# EAGLE library part EPF10K130-BGA672 (library altera)
EPF10K130 FLEX 10K family
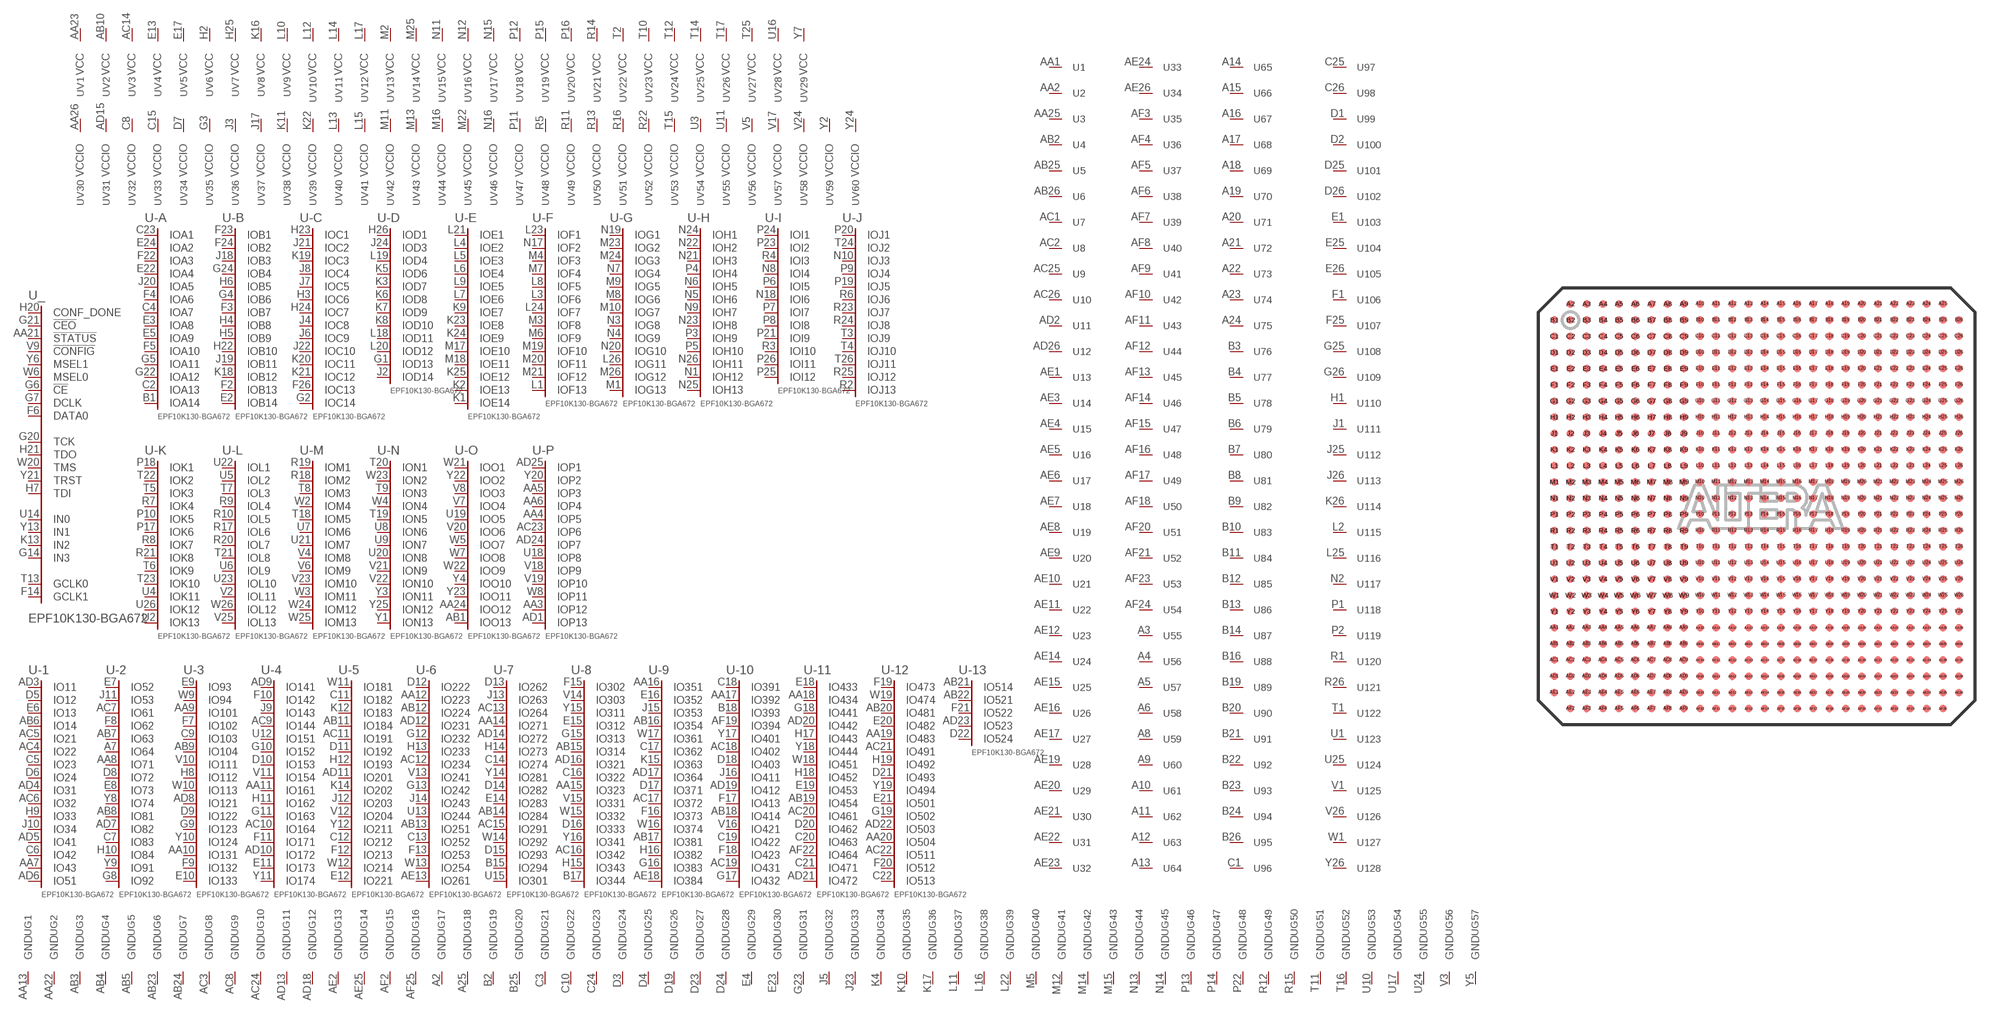
[diagram p36: symbol with the pads of BGA672; footprint BGA672]

Designator prefix U; gates _=130E672C -A=A14-130E -B=B14-130E -C=C14-130E -D=D14-130E -E=E14-130E -F=F13-130E -G=G13-130E -H=H13-130E -I=I12-130E -J=J13-130E -K=K13-130E -L=L13-130E -M=M13-130E -N=N13-130E -O=O13-130E -P=P13-130E -1=51-130E -2=92-130E -3=133-130E -4=174-130E -5=221-130E -6=261-130E -7=301-130E -8=344-130E -9=384-130E -10=432-130E -11=472-130E -12=513-130E -13=524-130E G1=GND G2=GND G3=GND G4=GND G5=GND G6=GND G7=GND G8=GND G9=GND G10=GND G11=GND G12=GND G13=GND G14=GND G15=GND G16=GND G17=GND G18=GND G19=GND G20=GND G21=GND G22=GND G23=GND G24=GND G25=GND G26=GND G27=GND G28=GND G29=GND G30=GND G31=GND G32=GND G33=GND G34=GND G35=GND G36=GND G37=GND G38=GND G39=GND G40=GND G41=GND G42=GND G43=GND G44=GND G45=GND G46=GND G47=GND G48=GND G49=GND G50=GND G51=GND G52=GND G53=GND G54=GND G55=GND G56=GND G57=GND V1=VCCINT V2=VCCINT V3=VCCINT V4=VCCINT V5=VCCINT V6=VCCINT V7=VCCINT V8=VCCINT V9=VCCINT V10=VCCINT V11=VCCINT V12=VCCINT V13=VCCINT V14=VCCINT V15=VCCINT V16=VCCINT V17=VCCINT V18=VCCINT V19=VCCINT V20=VCCINT V21=VCCINT V22=VCCINT V23=VCCINT V24=VCCINT V25=VCCINT V26=VCCINT V27=VCCINT V28=VCCINT V29=VCCINT V30=VCCIO V31=VCCIO V32=VCCIO V33=VCCIO V34=VCCIO V35=VCCIO V36=VCCIO V37=VCCIO V38=VCCIO V39=VCCIO V40=VCCIO V41=VCCIO V42=VCCIO V43=VCCIO V44=VCCIO V45=VCCIO V46=VCCIO V47=VCCIO V48=VCCIO V49=VCCIO V50=VCCIO V51=VCCIO V52=VCCIO V53=VCCIO V54=VCCIO V55=VCCIO V56=VCCIO V57=VCCIO V58=VCCIO V59=VCCIO V60=VCCIO 1=NC 2=NC 3=NC 4=NC 5=NC 6=NC 7=NC 8=NC 9=NC 10=NC 11=NC 12=NC 13=NC 14=NC 15=NC 16=NC 17=NC 18=NC 19=NC 20=NC 21=NC 22=NC 23=NC 24=NC 25=NC 26=NC 27=NC 28=NC 29=NC 30=NC 31=NC 32=NC 33=NC 34=NC 35=NC 36=NC 37=NC 38=NC 39=NC 40=NC 41=NC 42=NC 43=NC 44=NC 45=NC 46=NC 47=NC 48=NC 49=NC 50=NC 51=NC 52=NC 53=NC 54=NC 55=NC 56=NC 57=NC 58=NC 59=NC 60=NC 61=NC 62=NC 63=NC 64=NC 65=NC 66=NC 67=NC 68=NC 69=NC 70=NC 71=NC 72=NC 73=NC 74=NC 75=NC 76=NC 77=NC 78=NC 79=NC 80=NC 81=NC 82=NC 83=NC 84=NC 85=NC 86=NC 87=NC 88=NC 89=NC 90=NC 91=NC 92=NC 93=NC 94=NC 95=NC 96=NC 97=NC 98=NC 99=NC 100=NC 101=NC 102=NC 103=NC 104=NC 105=NC 106=NC 107=NC 108=NC 109=NC 110=NC 111=NC 112=NC 113=NC 114=NC 115=NC 116=NC 117=NC 118=NC 119=NC 120=NC 121=NC 122=NC 123=NC 124=NC 125=NC 126=NC 127=NC 128=NC

## EPF10K130-BGA672  [BGA672]
A2  G17:GND  pwr
A3  55:NC  nc
A4  56:NC  nc
A5  57:NC  nc
A6  58:NC  nc
A7  -2:IO64
A8  59:NC  nc
A9  60:NC  nc
A10  61:NC  nc
A11  62:NC  nc
A12  63:NC  nc
A13  64:NC  nc
A14  65:NC  nc
A15  66:NC  nc
A16  67:NC  nc
A17  68:NC  nc
A18  69:NC  nc
A19  70:NC  nc
A20  71:NC  nc
A21  72:NC  nc
A22  73:NC  nc
A23  74:NC  nc
A24  75:NC  nc
A25  G18:GND  pwr
AA1  1:NC  nc
AA2  2:NC  nc
AA3  -P:IOP12
AA4  -P:IOP5
AA5  -P:IOP3
AA6  -P:IOP4
AA7  -1:IO43
AA8  -2:IO71
AA9  -3:IO101
AA10  -3:IO131
AA11  -4:IO161
AA12  -6:IO223
AA13  G1:GND  pwr
AA14  -7:IO271
AA15  -8:IO323
AA16  -9:IO351
AA17  -10:IO392
AA18  -11:IO434
AA19  -12:IO483
AA20  -12:IO504
AA21  _:!STATUS!  in
AA22  G2:GND  pwr
AA23  V1:VCC  pwr
AA24  -O:IOO12
AA25  3:NC  nc
AA26  V30:VCCIO  pwr
AB1  -O:IOO13
AB2  4:NC  nc
AB3  G3:GND  pwr
AB4  G4:GND  pwr
AB5  G5:GND  pwr
AB6  -1:IO14
AB7  -2:IO63
AB8  -2:IO81
AB9  -3:IO104
AB10  V2:VCC  pwr
AB11  -5:IO184
AB12  -6:IO224
AB13  -6:IO251
AB14  -7:IO284
AB15  -8:IO314
AB16  -9:IO354
AB17  -9:IO381
AB18  -10:IO414
AB19  -11:IO454
AB20  -12:IO481
AB21  -13:IO514
AB22  -13:IO521
AB23  G6:GND  pwr
AB24  G7:GND  pwr
AB25  5:NC  nc
AB26  6:NC  nc
AC1  7:NC  nc
AC2  8:NC  nc
AC3  G8:GND  pwr
AC4  -1:IO22
AC5  -1:IO21
AC6  -1:IO32
AC7  -2:IO61
AC8  G9:GND  pwr
AC9  -4:IO144
AC10  -4:IO164
AC11  -5:IO191
AC12  -6:IO234
AC13  -7:IO264
AC14  V3:VCC  pwr
AC15  -7:IO291
AC16  -8:IO342
AC17  -9:IO372
AC18  -10:IO402
AC19  -10:IO431
AC20  -11:IO461
AC21  -12:IO491
AC22  -12:IO511
AC23  -P:IOP6
AC24  G10:GND  pwr
AC25  9:NC  nc
AC26  10:NC  nc
AD1  -P:IOP13
AD2  11:NC  nc
AD3  -1:IO11
AD4  -1:IO31
AD5  -1:IO41
AD6  -1:IO51
AD7  -2:IO82
AD8  -3:IO121
AD9  -4:IO141
AD10  -4:IO172
AD11  -5:IO201
AD12  -6:IO231
AD13  G11:GND  pwr
AD14  -7:IO272
AD15  V31:VCCIO  pwr
AD16  -8:IO321
AD17  -9:IO364
AD18  G12:GND  pwr
AD19  -10:IO412
AD20  -11:IO442
AD21  -11:IO472
AD22  -12:IO503
AD23  -13:IO523
AD24  -P:IOP7
AD25  -P:IOP1
AD26  12:NC  nc
AE1  13:NC  nc
AE2  G13:GND  pwr
AE3  14:NC  nc
AE4  15:NC  nc
AE5  16:NC  nc
AE6  17:NC  nc
AE7  18:NC  nc
AE8  19:NC  nc
AE9  20:NC  nc
AE10  21:NC  nc
AE11  22:NC  nc
AE12  23:NC  nc
AE13  -6:IO261
AE14  24:NC  nc
AE15  25:NC  nc
AE16  26:NC  nc
AE17  27:NC  nc
AE18  -9:IO384
AE19  28:NC  nc
AE20  29:NC  nc
AE21  30:NC  nc
AE22  31:NC  nc
AE23  32:NC  nc
AE24  33:NC  nc
AE25  G14:GND  pwr
AE26  34:NC  nc
AF2  G15:GND  pwr
AF3  35:NC  nc
AF4  36:NC  nc
AF5  37:NC  nc
AF6  38:NC  nc
AF7  39:NC  nc
AF8  40:NC  nc
AF9  41:NC  nc
AF10  42:NC  nc
AF11  43:NC  nc
AF12  44:NC  nc
AF13  45:NC  nc
AF14  46:NC  nc
AF15  47:NC  nc
AF16  48:NC  nc
AF17  49:NC  nc
AF18  50:NC  nc
AF19  -10:IO394
AF20  51:NC  nc
AF21  52:NC  nc
AF22  -11:IO464
AF23  53:NC  nc
AF24  54:NC  nc
AF25  G16:GND  pwr
B1  -A:IOA14
B2  G19:GND  pwr
B3  76:NC  nc
B4  77:NC  nc
B5  78:NC  nc
B6  79:NC  nc
B7  80:NC  nc
B8  81:NC  nc
B9  82:NC  nc
B10  83:NC  nc
B11  84:NC  nc
B12  85:NC  nc
B13  86:NC  nc
B14  87:NC  nc
B15  -7:IO294
B16  88:NC  nc
B17  -8:IO344
B18  -10:IO393
B19  89:NC  nc
B20  90:NC  nc
B21  91:NC  nc
B22  92:NC  nc
B23  93:NC  nc
B24  94:NC  nc
B25  G20:GND  pwr
B26  95:NC  nc
C1  96:NC  nc
C2  -A:IOA13
C3  G21:GND  pwr
C4  -A:IOA7
C5  -1:IO23
C6  -1:IO42
C7  -2:IO83
C8  V32:VCCIO  pwr
C9  -3:IO103
C10  G22:GND  pwr
C11  -5:IO182
C12  -5:IO212
C13  -6:IO252
C14  -7:IO274
C15  V33:VCCIO  pwr
C16  -8:IO322
C17  -9:IO362
C18  -10:IO391
C19  -10:IO422
C20  -11:IO463
C21  -11:IO471
C22  -12:IO513
C23  -A:IOA1
C24  G23:GND  pwr
C25  97:NC  nc
C26  98:NC  nc
D1  99:NC  nc
D2  100:NC  nc
D3  G24:GND  pwr
D4  G25:GND  pwr
D5  -1:IO12
D6  -1:IO24
D7  V34:VCCIO  pwr
D8  -2:IO72
D9  -3:IO122
D10  -4:IO153
D11  -5:IO192
D12  -6:IO222
D13  -7:IO262
D14  -7:IO282
D15  -7:IO293
D16  -8:IO333
D17  -9:IO371
D18  -10:IO403
D19  G26:GND  pwr
D20  -11:IO462
D21  -12:IO493
D22  -13:IO524
D23  G27:GND  pwr
D24  G28:GND  pwr
D25  101:NC  nc
D26  102:NC  nc
E1  103:NC  nc
E2  -B:IOB14
E3  -A:IOA8
E4  G29:GND  pwr
E5  -A:IOA9
E6  -1:IO13
E7  -2:IO52
E8  -2:IO73
E9  -3:IO93
E10  -3:IO133
E11  -4:IO173
E12  -5:IO221
E13  V4:VCC  pwr
E14  -7:IO283
E15  -8:IO312
E16  -9:IO352
E17  V5:VCC  pwr
E18  -11:IO433
E19  -11:IO453
E20  -12:IO482
E21  -12:IO501
E22  -A:IOA4
E23  G30:GND  pwr
E24  -A:IOA2
E25  104:NC  nc
E26  105:NC  nc
F1  106:NC  nc
F2  -B:IOB13
F3  -B:IOB7
F4  -A:IOA6
F5  -A:IOA10
F6  _:DATA0  in
F7  -3:IO102
F8  -2:IO62
F9  -3:IO132
F10  -4:IO142
F11  -4:IO171
F12  -5:IO213
F13  -6:IO253
F14  _:GCLK1  in
F15  -8:IO302
F16  -9:IO373
F17  -10:IO413
F18  -10:IO423
F19  -12:IO473
F20  -12:IO512
F21  -13:IO522
F22  -A:IOA3
F23  -B:IOB1
F24  -B:IOB2
F25  107:NC  nc
F26  -C:IOC13
G1  -D:IOD13
G2  -C:IOC14
G3  V35:VCCIO  pwr
G4  -B:IOB6
G5  -A:IOA11
G6  _:!CE!  in
G7  _:DCLK  in
G8  -2:IO92
G9  -3:IO123
G10  -4:IO152
G11  -4:IO163
G12  -6:IO232
G13  -6:IO242
G14  _:IN3  in
G15  -8:IO313
G16  -9:IO383
G17  -10:IO432
G18  -11:IO441
G19  -12:IO502
G20  _:TCK
G21  _:!CEO!  in
G22  -A:IOA12
G23  G31:GND  pwr
G24  -B:IOB4
G25  108:NC  nc
G26  109:NC  nc
H1  110:NC  nc
H2  V6:VCC  pwr
H3  -C:IOC6
H4  -B:IOB8
H5  -B:IOB9
H6  -B:IOB5
H7  _:TDI
H8  -3:IO112
H9  -1:IO33
H10  -2:IO84
H11  -4:IO162
H12  -5:IO193
H13  -6:IO233
H14  -7:IO273
H15  -8:IO343
H16  -9:IO382
H17  -11:IO443
H18  -11:IO452
H19  -12:IO492
H20  _:CONF_DONE  in
H21  _:TDO
H22  -B:IOB10
H23  -C:IOC1
H24  -C:IOC7
H25  V7:VCC  pwr
H26  -D:IOD1
J1  111:NC  nc
J2  -D:IOD14
J3  V36:VCCIO  pwr
J4  -C:IOC8
J5  G32:GND  pwr
J6  -C:IOC9
J7  -C:IOC5
J8  -C:IOC4
J9  -4:IO143
J10  -1:IO34
J11  -2:IO53
J12  -5:IO203
J13  -7:IO263
J14  -6:IO243
J15  -9:IO353
J16  -10:IO411
J17  V37:VCCIO  pwr
J18  -B:IOB3
J19  -B:IOB11
J20  -A:IOA5
J21  -C:IOC2
J22  -C:IOC10
J23  G33:GND  pwr
J24  -D:IOD3
J25  112:NC  nc
J26  113:NC  nc
K1  -E:IOE14
K2  -E:IOE13
K3  -D:IOD7
K4  G34:GND  pwr
K5  -D:IOD6
K6  -D:IOD8
K7  -D:IOD9
K8  -D:IOD10
K9  -E:IOE7
K10  G35:GND  pwr
K11  V38:VCCIO  pwr
K12  -5:IO183
K13  _:IN2  in
K14  -5:IO202
K15  -9:IO363
K16  V8:VCC  pwr
K17  G36:GND  pwr
K18  -B:IOB12
K19  -C:IOC3
K20  -C:IOC11
K21  -C:IOC12
K22  V39:VCCIO  pwr
K23  -E:IOE8
K24  -E:IOE9
K25  -E:IOE12
K26  114:NC  nc
L1  -F:IOF13
L2  115:NC  nc
L3  -F:IOF6
L4  -E:IOE2
L5  -E:IOE3
L6  -E:IOE4
L7  -E:IOE6
L8  -F:IOF5
L9  -E:IOE5
L10  V9:VCC  pwr
L11  G37:GND  pwr
L12  V10:VCC  pwr
L13  V40:VCCIO  pwr
L14  V11:VCC  pwr
L15  V41:VCCIO  pwr
L16  G38:GND  pwr
L17  V12:VCC  pwr
L18  -D:IOD11
L19  -D:IOD4
L20  -D:IOD12
L21  -E:IOE1
L22  G39:GND  pwr
L23  -F:IOF1
L24  -F:IOF7
L25  116:NC  nc
L26  -G:IOG11
M1  -G:IOG13
M2  V13:VCC  pwr
M3  -F:IOF8
M4  -F:IOF3
M5  G40:GND  pwr
M6  -F:IOF9
M7  -F:IOF4
M8  -G:IOG6
M9  -G:IOG5
M10  -G:IOG7
M11  V42:VCCIO  pwr
M12  G41:GND  pwr
M13  V43:VCCIO  pwr
M14  G42:GND  pwr
M15  G43:GND  pwr
M16  V44:VCCIO  pwr
M17  -E:IOE10
M18  -E:IOE11
M19  -F:IOF10
M20  -F:IOF11
M21  -F:IOF12
M22  V45:VCCIO  pwr
M23  -G:IOG2
M24  -G:IOG3
M25  V14:VCC  pwr
M26  -G:IOG12
N1  -H:IOH12
N2  117:NC  nc
N3  -G:IOG8
N4  -G:IOG9
N5  -H:IOH6
N6  -H:IOH5
N7  -G:IOG4
N8  -I:IOI4
N9  -H:IOH7
N10  -J:IOJ3
N11  V15:VCC  pwr
N12  V16:VCC  pwr
N13  G44:GND  pwr
N14  G45:GND  pwr
N15  V17:VCC  pwr
N16  V46:VCCIO  pwr
N17  -F:IOF2
N18  -I:IOI6
N19  -G:IOG1
N20  -G:IOG10
N21  -H:IOH3
N22  -H:IOH2
N23  -H:IOH8
N24  -H:IOH1
N25  -H:IOH13
N26  -H:IOH11
P1  118:NC  nc
P2  119:NC  nc
P3  -H:IOH9
P4  -H:IOH4
P5  -H:IOH10
P6  -I:IOI5
P7  -I:IOI7
P8  -I:IOI8
P9  -J:IOJ4
P10  -K:IOK5
P11  V47:VCCIO  pwr
P12  V18:VCC  pwr
P13  G46:GND  pwr
P14  G47:GND  pwr
P15  V19:VCC  pwr
P16  V20:VCC  pwr
P17  -K:IOK6
P18  -K:IOK1
P19  -J:IOJ5
P20  -J:IOJ1
P21  -I:IOI9
P22  G48:GND  pwr
P23  -I:IOI2
P24  -I:IOI1
P25  -I:IOI12
P26  -I:IOI11
R1  120:NC  nc
R2  -J:IOJ13
R3  -I:IOI10
R4  -I:IOI3
R5  V48:VCCIO  pwr
R6  -J:IOJ6
R7  -K:IOK4
R8  -K:IOK7
R9  -L:IOL4
R10  -L:IOL5
R11  V49:VCCIO  pwr
R12  G49:GND  pwr
R13  V50:VCCIO  pwr
R14  V21:VCC  pwr
R15  G50:GND  pwr
R16  V51:VCCIO  pwr
R17  -L:IOL6
R18  -M:IOM2
R19  -M:IOM1
R20  -L:IOL7
R21  -K:IOK8
R22  V52:VCCIO  pwr
R23  -J:IOJ7
R24  -J:IOJ8
R25  -J:IOJ12
R26  121:NC  nc
T1  122:NC  nc
T2  V22:VCC  pwr
T3  -J:IOJ9
T4  -J:IOJ10
T5  -K:IOK3
T6  -K:IOK9
T7  -L:IOL3
T8  -M:IOM3
T9  -N:ION3
T10  V23:VCC  pwr
T11  G51:GND  pwr
T12  V24:VCC  pwr
T13  _:GCLK0  in
T14  V25:VCC  pwr
T15  V53:VCCIO  pwr
T16  G52:GND  pwr
T17  V26:VCC  pwr
T18  -M:IOM5
T19  -N:ION5
T20  -N:ION1
T21  -L:IOL8
T22  -K:IOK2
T23  -K:IOK10
T24  -J:IOJ2
T25  V27:VCC  pwr
T26  -J:IOJ11
U1  123:NC  nc
U2  -K:IOK13
U3  V54:VCCIO  pwr
U4  -K:IOK11
U5  -L:IOL2
U6  -L:IOL9
U7  -M:IOM6
U8  -N:ION6
U9  -N:ION7
U10  G53:GND  pwr
U11  V55:VCCIO  pwr
U12  -4:IO151
U13  -6:IO244
U14  _:IN0  in
U15  -7:IO301
U16  V28:VCC  pwr
U17  G54:GND  pwr
U18  -P:IOP8
U19  -O:IOO5
U20  -N:ION8
U21  -M:IOM7
U22  -L:IOL1
U23  -L:IOL10
U24  G55:GND  pwr
U25  124:NC  nc
U26  -K:IOK12
V1  125:NC  nc
V2  -L:IOL11
V3  G56:GND  pwr
V4  -M:IOM8
V5  V56:VCCIO  pwr
V6  -M:IOM9
V7  -O:IOO4
V8  -O:IOO3
V9  _:!CONFIG!  in
V10  -3:IO111
V11  -4:IO154
V12  -5:IO204
V13  -6:IO241
V14  -8:IO303
V15  -8:IO331
V16  -10:IO421
V17  V57:VCCIO  pwr
V18  -P:IOP9
V19  -P:IOP10
V20  -O:IOO6
V21  -N:ION9
V22  -N:ION10
V23  -M:IOM10
V24  V58:VCCIO  pwr
V25  -L:IOL13
V26  126:NC  nc
W1  127:NC  nc
W2  -M:IOM4
W3  -M:IOM11
W4  -N:ION4
W5  -O:IOO7
W6  _:MSEL0  in
W7  -O:IOO8
W8  -P:IOP11
W9  -3:IO94
W10  -3:IO113
W11  -5:IO181
W12  -5:IO214
W13  -6:IO254
W14  -7:IO292
W15  -8:IO332
W16  -9:IO374
W17  -9:IO361
W18  -11:IO451
W19  -12:IO474
W20  _:TMS
W21  -O:IOO1
W22  -O:IOO9
W23  -N:ION2
W24  -M:IOM12
W25  -M:IOM13
W26  -L:IOL12
Y1  -N:ION13
Y2  V59:VCCIO  pwr
Y3  -N:ION11
Y4  -O:IOO10
Y5  G57:GND  pwr
Y6  _:MSEL1  in
Y7  V29:VCC  pwr
Y8  -2:IO74
Y9  -2:IO91
Y10  -3:IO124
Y11  -4:IO174
Y12  -5:IO211
Y13  _:IN1  in
Y14  -7:IO281
Y15  -8:IO311
Y16  -8:IO341
Y17  -10:IO401
Y18  -11:IO444
Y19  -12:IO494
Y20  -P:IOP2
Y21  _:TRST
Y22  -O:IOO2
Y23  -O:IOO11
Y24  V60:VCCIO  pwr
Y25  -N:ION12
Y26  128:NC  nc

## Footprint BGA672 (pad centres in mm)
Ball Grid Array
smd 0.45 x 0.45: A2 -11.5,12.5; A3 -10.5,12.5; A4 -9.5,12.5; A5 -8.5,12.5; A6 -7.5,12.5; A7 -6.5,12.5; A8 -5.5,12.5; A9 -4.5,12.5; A10 -3.5,12.5; A11 -2.5,12.5; A12 -1.5,12.5; A13 -0.5,12.5; A14 0.5,12.5; A15 1.5,12.5; A16 2.5,12.5; A17 3.5,12.5; A18 4.5,12.5; A19 5.5,12.5; A20 6.5,12.5; A21 7.5,12.5; A22 8.5,12.5; A23 9.5,12.5; A24 10.5,12.5; A25 11.5,12.5; AA1 -12.5,-7.5; AA2 -11.5,-7.5; AA3 -10.5,-7.5; AA4 -9.5,-7.5; AA5 -8.5,-7.5; AA6 -7.5,-7.5; AA7 -6.5,-7.5; AA8 -5.5,-7.5; AA9 -4.5,-7.5; AA10 -3.5,-7.5; AA11 -2.5,-7.5; AA12 -1.5,-7.5; AA13 -0.5,-7.5; AA14 0.5,-7.5; AA15 1.5,-7.5; AA16 2.5,-7.5; AA17 3.5,-7.5; AA18 4.5,-7.5; AA19 5.5,-7.5; AA20 6.5,-7.5; AA21 7.5,-7.5; AA22 8.5,-7.5; AA23 9.5,-7.5; AA24 10.5,-7.5; AA25 11.5,-7.5; AA26 12.5,-7.5; AB1 -12.5,-8.5; AB2 -11.5,-8.5; AB3 -10.5,-8.5; AB4 -9.5,-8.5; AB5 -8.5,-8.5; AB6 -7.5,-8.5; AB7 -6.5,-8.5; AB8 -5.5,-8.5; AB9 -4.5,-8.5; AB10 -3.5,-8.5; AB11 -2.5,-8.5; AB12 -1.5,-8.5; AB13 -0.5,-8.5; AB14 0.5,-8.5; AB15 1.5,-8.5; AB16 2.5,-8.5; AB17 3.5,-8.5; AB18 4.5,-8.5; AB19 5.5,-8.5; AB20 6.5,-8.5; AB21 7.5,-8.5; AB22 8.5,-8.5; AB23 9.5,-8.5; AB24 10.5,-8.5; AB25 11.5,-8.5; AB26 12.5,-8.5; AC1 -12.5,-9.5; AC2 -11.5,-9.5; AC3 -10.5,-9.5; AC4 -9.5,-9.5; AC5 -8.5,-9.5; AC6 -7.5,-9.5; AC7 -6.5,-9.5; AC8 -5.5,-9.5; AC9 -4.5,-9.5; AC10 -3.5,-9.5; AC11 -2.5,-9.5; AC12 -1.5,-9.5; AC13 -0.5,-9.5; AC14 0.5,-9.5; AC15 1.5,-9.5; AC16 2.5,-9.5; AC17 3.5,-9.5; AC18 4.5,-9.5; AC19 5.5,-9.5; AC20 6.5,-9.5; AC21 7.5,-9.5; AC22 8.5,-9.5; AC23 9.5,-9.5; AC24 10.5,-9.5; AC25 11.5,-9.5; AC26 12.5,-9.5; AD1 -12.5,-10.5; AD2 -11.5,-10.5; AD3 -10.5,-10.5; AD4 -9.5,-10.5; AD5 -8.5,-10.5; AD6 -7.5,-10.5; AD7 -6.5,-10.5; AD8 -5.5,-10.5; AD9 -4.5,-10.5; AD10 -3.5,-10.5; AD11 -2.5,-10.5; AD12 -1.5,-10.5; AD13 -0.5,-10.5; AD14 0.5,-10.5; AD15 1.5,-10.5; AD16 2.5,-10.5; AD17 3.5,-10.5; AD18 4.5,-10.5; AD19 5.5,-10.5; AD20 6.5,-10.5; AD21 7.5,-10.5; AD22 8.5,-10.5; AD23 9.5,-10.5; AD24 10.5,-10.5; AD25 11.5,-10.5; AD26 12.5,-10.5; AE1 -12.5,-11.5; AE2 -11.5,-11.5; AE3 -10.5,-11.5; AE4 -9.5,-11.5; AE5 -8.5,-11.5; AE6 -7.5,-11.5; AE7 -6.5,-11.5; AE8 -5.5,-11.5; AE9 -4.5,-11.5; AE10 -3.5,-11.5; AE11 -2.5,-11.5; AE12 -1.5,-11.5; AE13 -0.5,-11.5; AE14 0.5,-11.5; AE15 1.5,-11.5; AE16 2.5,-11.5; AE17 3.5,-11.5; AE18 4.5,-11.5; AE19 5.5,-11.5; AE20 6.5,-11.5; AE21 7.5,-11.5; AE22 8.5,-11.5; AE23 9.5,-11.5; AE24 10.5,-11.5; AE25 11.5,-11.5; AE26 12.5,-11.5; AF2 -11.5,-12.5; AF3 -10.5,-12.5; AF4 -9.5,-12.5; AF5 -8.5,-12.5; AF6 -7.5,-12.5; AF7 -6.5,-12.5; AF8 -5.5,-12.5; AF9 -4.5,-12.5; AF10 -3.5,-12.5; AF11 -2.5,-12.5; AF12 -1.5,-12.5; AF13 -0.5,-12.5; AF14 0.5,-12.5; AF15 1.5,-12.5; AF16 2.5,-12.5; AF17 3.5,-12.5; AF18 4.5,-12.5; AF19 5.5,-12.5; AF20 6.5,-12.5; AF21 7.5,-12.5; AF22 8.5,-12.5; AF23 9.5,-12.5; AF24 10.5,-12.5; AF25 11.5,-12.5; B1 -12.5,11.5; B2 -11.5,11.5; B3 -10.5,11.5; B4 -9.5,11.5; B5 -8.5,11.5; B6 -7.5,11.5; B7 -6.5,11.5; B8 -5.5,11.5; B9 -4.5,11.5; B10 -3.5,11.5; B11 -2.5,11.5; B12 -1.5,11.5; B13 -0.5,11.5; B14 0.5,11.5; B15 1.5,11.5; B16 2.5,11.5; B17 3.5,11.5; B18 4.5,11.5; B19 5.5,11.5; B20 6.5,11.5; B21 7.5,11.5; B22 8.5,11.5; B23 9.5,11.5; B24 10.5,11.5; B25 11.5,11.5; B26 12.5,11.5; C1 -12.5,10.5; C2 -11.5,10.5; C3 -10.5,10.5; C4 -9.5,10.5; C5 -8.5,10.5; C6 -7.5,10.5; C7 -6.5,10.5; C8 -5.5,10.5; C9 -4.5,10.5; C10 -3.5,10.5; C11 -2.5,10.5; C12 -1.5,10.5; C13 -0.5,10.5; C14 0.5,10.5; C15 1.5,10.5; C16 2.5,10.5; C17 3.5,10.5; C18 4.5,10.5; C19 5.5,10.5; C20 6.5,10.5; C21 7.5,10.5; C22 8.5,10.5; C23 9.5,10.5; C24 10.5,10.5; C25 11.5,10.5; C26 12.5,10.5; D1 -12.5,9.5; D2 -11.5,9.5; D3 -10.5,9.5; D4 -9.5,9.5; D5 -8.5,9.5; D6 -7.5,9.5; D7 -6.5,9.5; D8 -5.5,9.5; D9 -4.5,9.5; D10 -3.5,9.5; D11 -2.5,9.5; D12 -1.5,9.5; D13 -0.5,9.5; D14 0.5,9.5; D15 1.5,9.5; D16 2.5,9.5; D17 3.5,9.5; D18 4.5,9.5; D19 5.5,9.5; D20 6.5,9.5; D21 7.5,9.5; D22 8.5,9.5; D23 9.5,9.5; D24 10.5,9.5; D25 11.5,9.5; D26 12.5,9.5; E1 -12.5,8.5; E2 -11.5,8.5; E3 -10.5,8.5; E4 -9.5,8.5; E5 -8.5,8.5; E6 -7.5,8.5; E7 -6.5,8.5; E8 -5.5,8.5; E9 -4.5,8.5; E10 -3.5,8.5; E11 -2.5,8.5; E12 -1.5,8.5; E13 -0.5,8.5; E14 0.5,8.5; E15 1.5,8.5; E16 2.5,8.5; E17 3.5,8.5; E18 4.5,8.5; E19 5.5,8.5; E20 6.5,8.5; E21 7.5,8.5; E22 8.5,8.5; E23 9.5,8.5; E24 10.5,8.5; E25 11.5,8.5; E26 12.5,8.5; F1 -12.5,7.5; F2 -11.5,7.5; F3 -10.5,7.5; F4 -9.5,7.5; F5 -8.5,7.5; F6 -7.5,7.5; F7 -6.5,7.5; F8 -5.5,7.5; F9 -4.5,7.5; F10 -3.5,7.5; F11 -2.5,7.5; F12 -1.5,7.5; F13 -0.5,7.5; F14 0.5,7.5; F15 1.5,7.5; F16 2.5,7.5; F17 3.5,7.5; F18 4.5,7.5; F19 5.5,7.5; F20 6.5,7.5; F21 7.5,7.5; F22 8.5,7.5; F23 9.5,7.5; F24 10.5,7.5; F25 11.5,7.5; F26 12.5,7.5; G1 -12.5,6.5; G2 -11.5,6.5; G3 -10.5,6.5; G4 -9.5,6.5; G5 -8.5,6.5; G6 -7.5,6.5; G7 -6.5,6.5; G8 -5.5,6.5; G9 -4.5,6.5; G10 -3.5,6.5; G11 -2.5,6.5; G12 -1.5,6.5; G13 -0.5,6.5; G14 0.5,6.5; G15 1.5,6.5; G16 2.5,6.5; G17 3.5,6.5; G18 4.5,6.5; G19 5.5,6.5; G20 6.5,6.5; G21 7.5,6.5; G22 8.5,6.5; G23 9.5,6.5; G24 10.5,6.5; G25 11.5,6.5; G26 12.5,6.5; H1 -12.5,5.5; H2 -11.5,5.5; H3 -10.5,5.5; H4 -9.5,5.5; H5 -8.5,5.5; H6 -7.5,5.5; H7 -6.5,5.5; H8 -5.5,5.5; H9 -4.5,5.5; H10 -3.5,5.5; H11 -2.5,5.5; H12 -1.5,5.5; H13 -0.5,5.5; H14 0.5,5.5; H15 1.5,5.5; H16 2.5,5.5; H17 3.5,5.5; H18 4.5,5.5; H19 5.5,5.5; H20 6.5,5.5; H21 7.5,5.5; H22 8.5,5.5; H23 9.5,5.5; H24 10.5,5.5; H25 11.5,5.5; H26 12.5,5.5; J1 -12.5,4.5; J2 -11.5,4.5; J3 -10.5,4.5; J4 -9.5,4.5; J5 -8.5,4.5; J6 -7.5,4.5; J7 -6.5,4.5; J8 -5.5,4.5; J9 -4.5,4.5; J10 -3.5,4.5; J11 -2.5,4.5; J12 -1.5,4.5; J13 -0.5,4.5; J14 0.5,4.5; J15 1.5,4.5; J16 2.5,4.5; J17 3.5,4.5; J18 4.5,4.5; J19 5.5,4.5; J20 6.5,4.5; J21 7.5,4.5; J22 8.5,4.5; J23 9.5,4.5; J24 10.5,4.5; J25 11.5,4.5; J26 12.5,4.5; K1 -12.5,3.5; K2 -11.5,3.5; K3 -10.5,3.5; K4 -9.5,3.5; K5 -8.5,3.5; K6 -7.5,3.5; K7 -6.5,3.5; K8 -5.5,3.5; K9 -4.5,3.5; K10 -3.5,3.5; K11 -2.5,3.5; K12 -1.5,3.5; K13 -0.5,3.5; K14 0.5,3.5; K15 1.5,3.5; K16 2.5,3.5; K17 3.5,3.5; K18 4.5,3.5; K19 5.5,3.5; K20 6.5,3.5; K21 7.5,3.5; K22 8.5,3.5; K23 9.5,3.5; K24 10.5,3.5; K25 11.5,3.5; K26 12.5,3.5; L1 -12.5,2.5; L2 -11.5,2.5; L3 -10.5,2.5; L4 -9.5,2.5; L5 -8.5,2.5; L6 -7.5,2.5; L7 -6.5,2.5; L8 -5.5,2.5; L9 -4.5,2.5; L10 -3.5,2.5; L11 -2.5,2.5; L12 -1.5,2.5; L13 -0.5,2.5; L14 0.5,2.5; L15 1.5,2.5; L16 2.5,2.5; L17 3.5,2.5; L18 4.5,2.5; L19 5.5,2.5; L20 6.5,2.5; L21 7.5,2.5; L22 8.5,2.5; L23 9.5,2.5; L24 10.5,2.5; L25 11.5,2.5; L26 12.5,2.5; M1 -12.5,1.5; M2 -11.5,1.5; M3 -10.5,1.5; M4 -9.5,1.5; M5 -8.5,1.5; M6 -7.5,1.5; M7 -6.5,1.5; M8 -5.5,1.5; M9 -4.5,1.5; M10 -3.5,1.5; M11 -2.5,1.5; M12 -1.5,1.5; M13 -0.5,1.5; M14 0.5,1.5; M15 1.5,1.5; M16 2.5,1.5; M17 3.5,1.5; M18 4.5,1.5; M19 5.5,1.5; M20 6.5,1.5; M21 7.5,1.5; M22 8.5,1.5; M23 9.5,1.5; M24 10.5,1.5; M25 11.5,1.5; M26 12.5,1.5; N1 -12.5,0.5; N2 -11.5,0.5; N3 -10.5,0.5; N4 -9.5,0.5; N5 -8.5,0.5; N6 -7.5,0.5; N7 -6.5,0.5; N8 -5.5,0.5; N9 -4.5,0.5; N10 -3.5,0.5; N11 -2.5,0.5; N12 -1.5,0.5; N13 -0.5,0.5; N14 0.5,0.5; N15 1.5,0.5; N16 2.5,0.5; N17 3.5,0.5; N18 4.5,0.5; N19 5.5,0.5; N20 6.5,0.5; N21 7.5,0.5; N22 8.5,0.5; N23 9.5,0.5; N24 10.5,0.5; N25 11.5,0.5; N26 12.5,0.5; P1 -12.5,-0.5; P2 -11.5,-0.5; P3 -10.5,-0.5; P4 -9.5,-0.5; P5 -8.5,-0.5; P6 -7.5,-0.5; P7 -6.5,-0.5; P8 -5.5,-0.5; P9 -4.5,-0.5; P10 -3.5,-0.5; P11 -2.5,-0.5; P12 -1.5,-0.5; P13 -0.5,-0.5; P14 0.5,-0.5; P15 1.5,-0.5; P16 2.5,-0.5; P17 3.5,-0.5; P18 4.5,-0.5; P19 5.5,-0.5; P20 6.5,-0.5; P21 7.5,-0.5; P22 8.5,-0.5; P23 9.5,-0.5; P24 10.5,-0.5; P25 11.5,-0.5; P26 12.5,-0.5; R1 -12.5,-1.5; R2 -11.5,-1.5; R3 -10.5,-1.5; R4 -9.5,-1.5; R5 -8.5,-1.5; R6 -7.5,-1.5; R7 -6.5,-1.5; R8 -5.5,-1.5; R9 -4.5,-1.5; R10 -3.5,-1.5; R11 -2.5,-1.5; R12 -1.5,-1.5; R13 -0.5,-1.5; R14 0.5,-1.5; R15 1.5,-1.5; R16 2.5,-1.5; R17 3.5,-1.5; R18 4.5,-1.5; R19 5.5,-1.5; R20 6.5,-1.5; R21 7.5,-1.5; R22 8.5,-1.5; R23 9.5,-1.5; R24 10.5,-1.5; R25 11.5,-1.5; R26 12.5,-1.5; T1 -12.5,-2.5; T2 -11.5,-2.5; T3 -10.5,-2.5; T4 -9.5,-2.5; T5 -8.5,-2.5; T6 -7.5,-2.5; T7 -6.5,-2.5; T8 -5.5,-2.5; T9 -4.5,-2.5; T10 -3.5,-2.5; T11 -2.5,-2.5; T12 -1.5,-2.5; T13 -0.5,-2.5; T14 0.5,-2.5; T15 1.5,-2.5; T16 2.5,-2.5; T17 3.5,-2.5; T18 4.5,-2.5; T19 5.5,-2.5; T20 6.5,-2.5; T21 7.5,-2.5; T22 8.5,-2.5; T23 9.5,-2.5; T24 10.5,-2.5; T25 11.5,-2.5; T26 12.5,-2.5; U1 -12.5,-3.5; U2 -11.5,-3.5; U3 -10.5,-3.5; U4 -9.5,-3.5; U5 -8.5,-3.5; U6 -7.5,-3.5; U7 -6.5,-3.5; U8 -5.5,-3.5; U9 -4.5,-3.5; U10 -3.5,-3.5; U11 -2.5,-3.5; U12 -1.5,-3.5; U13 -0.5,-3.5; U14 0.5,-3.5; U15 1.5,-3.5; U16 2.5,-3.5; U17 3.5,-3.5; U18 4.5,-3.5; U19 5.5,-3.5; U20 6.5,-3.5; U21 7.5,-3.5; U22 8.5,-3.5; U23 9.5,-3.5; U24 10.5,-3.5; U25 11.5,-3.5; U26 12.5,-3.5; V1 -12.5,-4.5; V2 -11.5,-4.5; V3 -10.5,-4.5; V4 -9.5,-4.5; V5 -8.5,-4.5; V6 -7.5,-4.5; V7 -6.5,-4.5; V8 -5.5,-4.5; V9 -4.5,-4.5; V10 -3.5,-4.5; V11 -2.5,-4.5; V12 -1.5,-4.5; V13 -0.5,-4.5; V14 0.5,-4.5; V15 1.5,-4.5; V16 2.5,-4.5; V17 3.5,-4.5; V18 4.5,-4.5; V19 5.5,-4.5; V20 6.5,-4.5; V21 7.5,-4.5; V22 8.5,-4.5; V23 9.5,-4.5; V24 10.5,-4.5; V25 11.5,-4.5; V26 12.5,-4.5; W1 -12.5,-5.5; W2 -11.5,-5.5; W3 -10.5,-5.5; W4 -9.5,-5.5; W5 -8.5,-5.5; W6 -7.5,-5.5; W7 -6.5,-5.5; W8 -5.5,-5.5; W9 -4.5,-5.5; W10 -3.5,-5.5; W11 -2.5,-5.5; W12 -1.5,-5.5; W13 -0.5,-5.5; W14 0.5,-5.5; W15 1.5,-5.5; W16 2.5,-5.5; W17 3.5,-5.5; W18 4.5,-5.5; W19 5.5,-5.5; W20 6.5,-5.5; W21 7.5,-5.5; W22 8.5,-5.5; W23 9.5,-5.5; W24 10.5,-5.5; W25 11.5,-5.5; W26 12.5,-5.5; Y1 -12.5,-6.5; Y2 -11.5,-6.5; Y3 -10.5,-6.5; Y4 -9.5,-6.5; Y5 -8.5,-6.5; Y6 -7.5,-6.5; Y7 -6.5,-6.5; Y8 -5.5,-6.5; Y9 -4.5,-6.5; Y10 -3.5,-6.5; Y11 -2.5,-6.5; Y12 -1.5,-6.5; Y13 -0.5,-6.5; Y14 0.5,-6.5; Y15 1.5,-6.5; Y16 2.5,-6.5; Y17 3.5,-6.5; Y18 4.5,-6.5; Y19 5.5,-6.5; Y20 6.5,-6.5; Y21 7.5,-6.5; Y22 8.5,-6.5; Y23 9.5,-6.5; Y24 10.5,-6.5; Y25 11.5,-6.5; Y26 12.5,-6.5